# Altium schematic symbol library LM5160DNTT.SchLib: 1 symbol
Pins are listed as number, name and electrical type; pins without a type are passive.

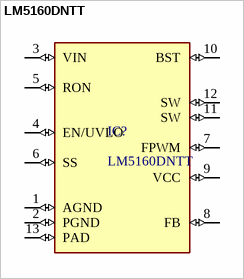
[diagram p0: symbol LM5160DNTT]

## LM5160DNTT
designator IC?
LM5160 wide input 65V, 2A synchronous buck/Fly-Buck converter 12-WSON -40 to 125
footprint PCBComponent_1
pins: 1 AGND (io), 2 PGND (io), 3 VIN (io), 4 EN/UVLO (io), 5 RON (io), 6 SS (io), 7 FPWM (io), 8 FB (io), 9 VCC (io), 10 BST (io), 11 SW (io), 12 SW (io), 13 PAD (io)